# Altium schematic symbol library G103WM_newLib.SchLib: 2 symbols
Pins are listed as number, name and electrical type; pins without a type are passive.

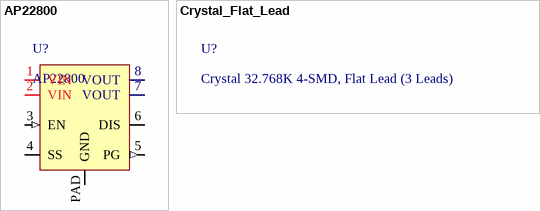
[diagram p0: symbols AP22800 to Crystal_Flat_Lead]

## AP22800
designator U?
5V SINGLE CHANNEL PROGRAMMABLE LOAD SWITCH; Datasheet: https://www.diodes.com/assets/Datasheets/AP22800.pdf; Price (USD): 0.386; Vendor: https://www.digikey.com/product-detail/en/diodes-incorporated/AP22800HB-7/AP22800HB-7DICT-ND/5030392
footprint 8-UFDFN Exposed Pad (Plastic small Outline WSON10)
pins: 1 VIN (power) "Input Voltage", 2 VIN (power) "Input Voltage", 3 EN (in) "Enable Input, Active High.", 4 SS "Soft-Start Adjust. An external capacitor connected to this pin will set the ramp-up time of VOUT.", 5 PG (out) "Power Good. Open-drain output to indicate when the switch is fully enhanced.", 6 DIS "Output Discharge. An external resistor between DIS and VOUT sets the discharge rate at VOUT  when EN goes low.", 7 VOUT (power) "Output Voltage. This pin connects to the Source of the N-channel MOSFET", 8 VOUT (power) "Output Voltage. This pin connects to the Source of the N-channel MOSFET", PAD GND (power) "PAD"

## Crystal_Flat_Lead
designator U?, comment Crystal 32.768K 4-SMD, Flat Lead (3 Leads)